# EAGLE library part GBASLOT (library dslparts)
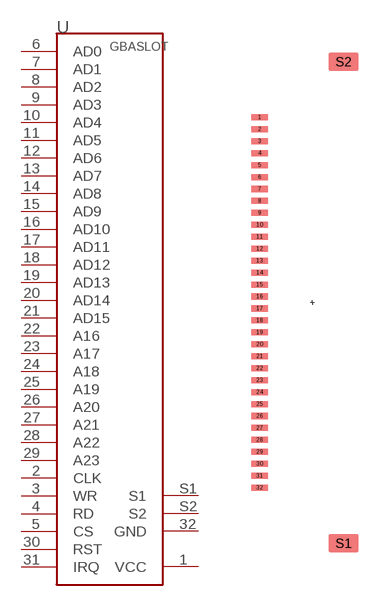
[diagram p0: symbol with the pads of GBA; footprint GBA]

Designator prefix -

## GBASLOT  [GBA]
1  VCC
2  CLK
3  WR
4  RD
5  CS
6  AD0
7  AD1
8  AD2
9  AD3
10  AD4
11  AD5
12  AD6
13  AD7
14  AD8
15  AD9
16  AD10
17  AD11
18  AD12
19  AD13
20  AD14
21  AD15
22  A16
23  A17
24  A18
25  A19
26  A20
27  A21
28  A22
29  A23
30  RST
31  IRQ
32  GND
S1  S1
S2  S2

## Footprint GBA (pad centres in mm)
smd 2.032 x 0.762: 1 -6.62,23.25; 2 -6.62,21.75; 3 -6.62,20.25; 4 -6.62,18.75; 5 -6.62,17.25; 6 -6.62,15.75; 7 -6.62,14.25; 8 -6.62,12.75; 9 -6.62,11.25; 10 -6.62,9.75; 11 -6.62,8.25; 12 -6.62,6.75; 13 -6.62,5.25; 14 -6.62,3.75; 15 -6.62,2.25; 16 -6.62,0.75; 17 -6.62,-0.75; 18 -6.62,-2.25; 19 -6.62,-3.75; 20 -6.62,-5.25; 21 -6.62,-6.75; 22 -6.62,-8.25; 23 -6.62,-9.75; 24 -6.62,-11.25; 25 -6.62,-12.75; 26 -6.62,-14.25; 27 -6.62,-15.75; 28 -6.62,-17.25; 29 -6.62,-18.75; 30 -6.62,-20.25; 31 -6.62,-21.75; 32 -6.62,-23.25
smd 3.81 x 2.286: S1 3.937,-30.226; S2 3.937,30.226